# EAGLE library part ADUC812 (library analog-devices)
ANALOG DEVICES
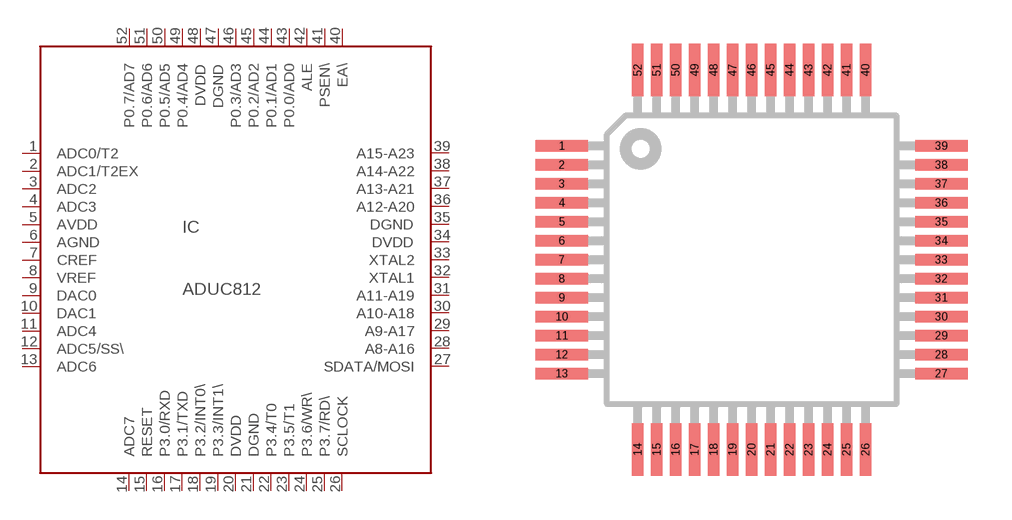
[diagram p3: symbol with the pads of PQFP52; footprint PQFP52]

Designator prefix IC

## ADUC812  [PQFP52]
1  ADC0/T2  in
2  ADC1/T2EX  in
3  ADC2  in
4  ADC3  in
5  AVDD  pwr
6  AGND  pwr
7  CREF  in
8  VREF
9  DAC0  out
10  DAC1  out
11  ADC4  in
12  ADC5/SS\  in
13  ADC6  in
14  ADC7  in
15  RESET  in
16  P3.0/RXD
17  P3.1/TXD
18  P3.2/INT0\
19  P3.3/INT1\
20  DVDD  pwr
21  DGND  pwr
22  P3.4/T0
23  P3.5/T1
24  P3.6/WR\
25  P3.7/RD\
26  SCLOCK  in
27  SDATA/MOSI  in
28  A8-A16
29  A9-A17
30  A10-A18
31  A11-A19
32  XTAL1  in
33  XTAL2  out
34  DVDD  pwr
35  D  pwr
36  A12-A20
37  A13-A21
38  A14-A22
39  A15-A23
40  EA\  in
41  PSEN\  out
42  ALE  out
43  P0.0/AD0
44  P0.1/AD1
45  P0.2/AD2
46  P0.3/AD3
47  DGND  pwr
48  DVDD  pwr
49  P0.4/AD4
50  P0.5/AD5
51  P0.6/AD6
52  P0.7/AD7

## Footprint PQFP52 (pad centres in mm)
smd 1.8 x 0.4: 1 -6.5,3.9; 2 -6.5,3.25; 3 -6.5,2.6; 4 -6.5,1.95; 5 -6.5,1.3; 6 -6.5,0.65; 7 -6.5,0; 8 -6.5,-0.65; 9 -6.5,-1.3; 10 -6.5,-1.95; 11 -6.5,-2.6; 12 -6.5,-3.25; 13 -6.5,-3.9; 27 6.5,-3.9; 28 6.5,-3.25; 29 6.5,-2.6; 30 6.5,-1.95; 31 6.5,-1.3; 32 6.5,-0.65; 33 6.5,0; 34 6.5,0.65; 35 6.5,1.3; 36 6.5,1.95; 37 6.5,2.6; 38 6.5,3.25; 39 6.5,3.9
smd 0.4 x 1.8: 14 -3.9,-6.5; 15 -3.25,-6.5; 16 -2.6,-6.5; 17 -1.95,-6.5; 18 -1.3,-6.5; 19 -0.65,-6.5; 20 0,-6.5; 21 0.65,-6.5; 22 1.3,-6.5; 23 1.95,-6.5; 24 2.6,-6.5; 25 3.25,-6.5; 26 3.9,-6.5; 40 3.9,6.5; 41 3.25,6.5; 42 2.6,6.5; 43 1.95,6.5; 44 1.3,6.5; 45 0.65,6.5; 46 0,6.5; 47 -0.65,6.5; 48 -1.3,6.5; 49 -1.95,6.5; 50 -2.6,6.5; 51 -3.25,6.5; 52 -3.9,6.5